# Altium schematic symbol library ATM13-4P-BM02.SchLib: 1 symbol
Pins are listed as number, name and electrical type; pins without a type are passive.

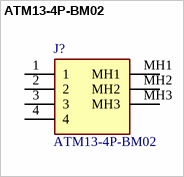
[diagram p0: symbol ATM13-4P-BM02]

## ATM13-4P-BM02
designator J?
Automotive Connectors RA Flng Mnt PCB Rcpt 4POS Gry Gld Cont; Manufacturer_Name: Amphenol; Geometry.Height: 33.4mm; Manufacturer_Part_Number: ATM13-4P-BM02; Mouser Part Number: 654-ATM13-4P-BM02; Mouser Price/Stock: https://www.mouser.co.uk/ProductDetail/Amphenol-SINE-Systems/ATM13-4P-BM02?qs=0lSvoLzn4L8TNire0wHiew%3D%3D; Arrow Part Number: ATM13-4P-BM02; Arrow Price/Stock: https://www.arrow.com/en/products/atm13-4p-bm02/amphenol?region=nac; Datasheet Link: https://www.amphenol-industrial.de/en/amph/download/getMime/YXRtMTMtNHAtYm0wMi1jZHIucGRm
footprint ATM134PBM02
pins: 1, 2, 3, 4, MH1, MH2, MH3